# Altium schematic symbol library GAP_Shield.SCHLIB: 28 symbols
Pins are listed as number, name and electrical type; pins without a type are passive.

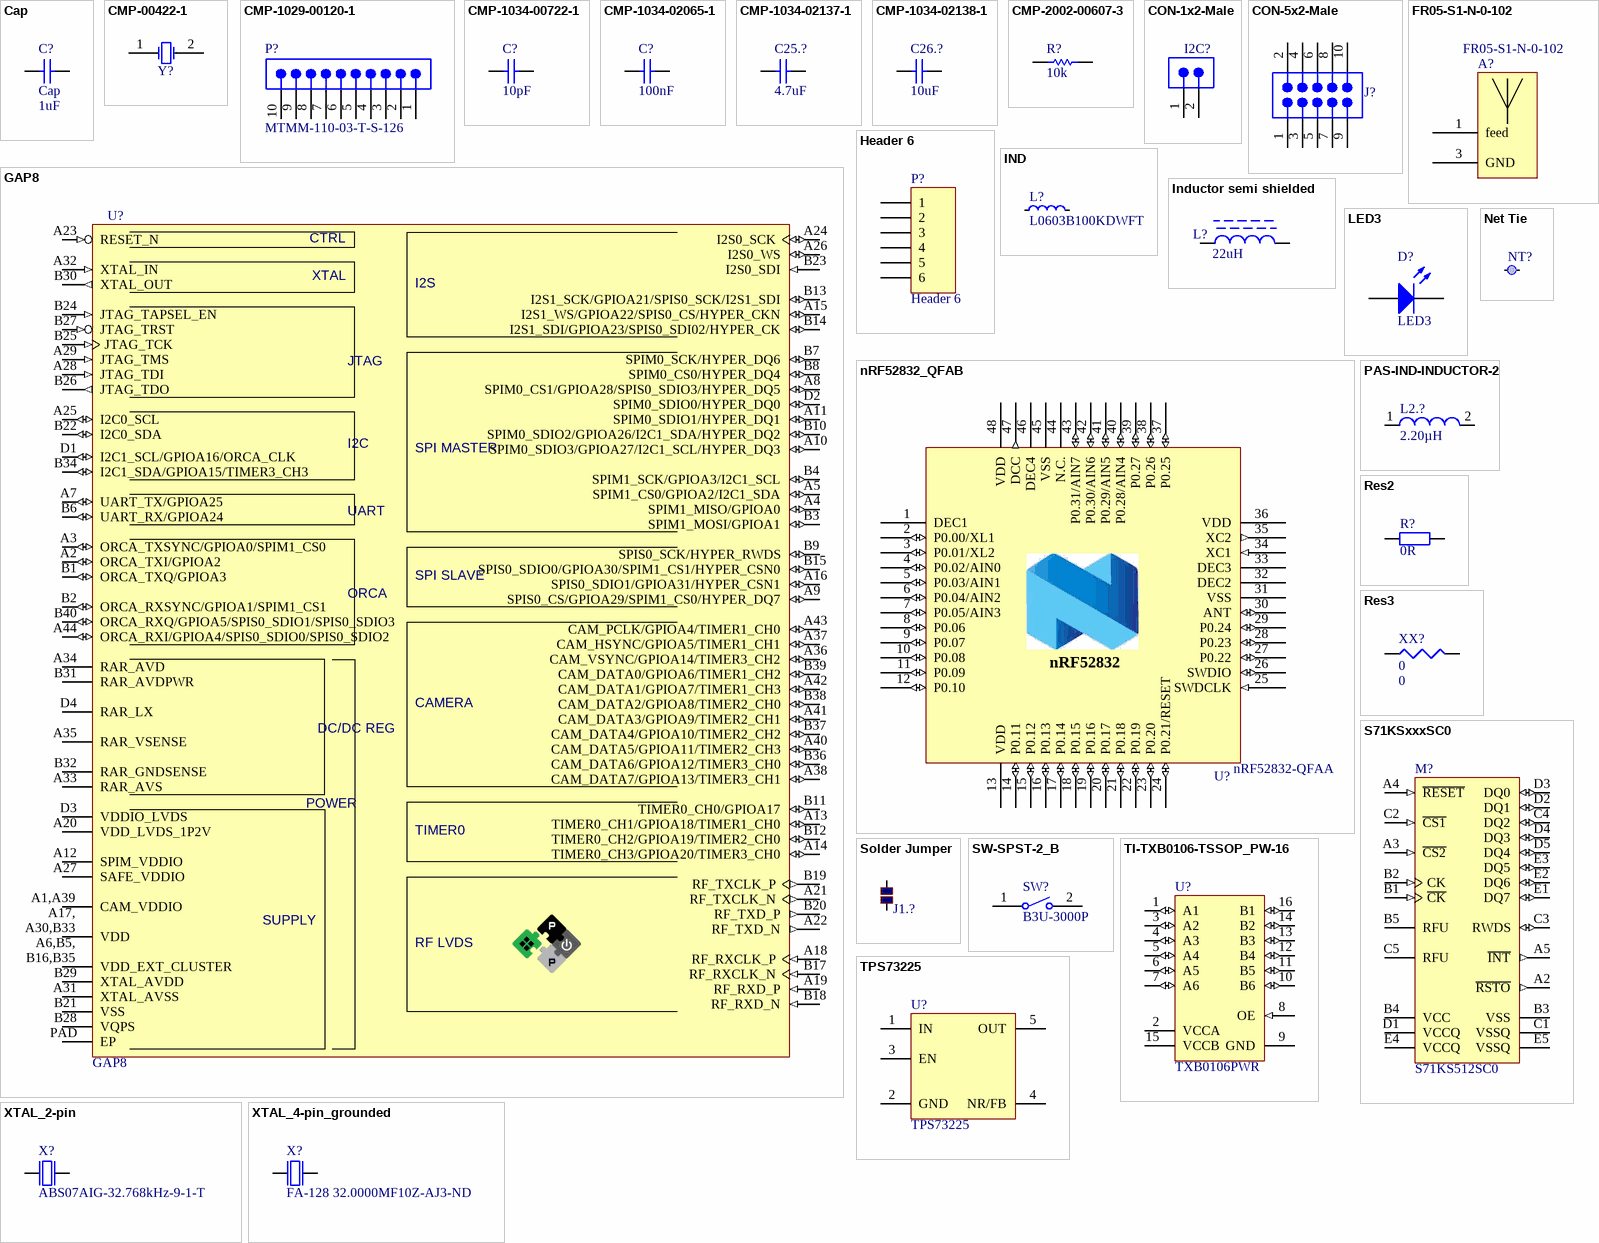
[diagram p0: symbols Cap to XTAL_4-pin_grounded]

## Cap
designator C?  value 1uF
Capacitor; Published: 8-Jun-2000; LatestRevisionDate: 17-Jul-2002; LatestRevisionNote: Re-released for DXP Platform.; PackageReference: RAD-0.3; Publisher: Altium Limited; PackageDescription: Radial Cap, Thru-Hole; 2 Leads; 0.3 in Pin Spacing
simulation model CAP (Capacitor)
signal-integrity model Cap
footprint 0402 (Chip Capacitor, Body 1.0x0.5mm, IPC High Density)
pins: 1, 2

## CMP-00422-1
designator Y?, comment ABS07-32.768KHZ-7-T  (value not drawn)
32.768kHz ±20ppm Crystal 7pF 70 kOhm -40°C ~ 85°C  Surface Mount 2-SMD, No Lead; Brand: ABRACON; Case Height: 0.9 mm; Case Length: 3.2 mm; Case Width: 1.5 mm; ESR: 70 kOhms; Dimensions: 1.5 mm W x 3.2 mm L x 0.9 mm H; Manufacturer: ABRACON; Frequency: 32.768 kHz; Frequency Stability: 20 PPM; Load Capacitance: 7 pF; Package / Case: 3.2 mm x 1.5 mm; Operating Temperature Range: - 40 C to + 85 C; Mounting Style: SMD/SMT; Factory Pack Quantity: 3000; Product Category: Crystals; RoHS: Details; Tolerance: 20 PPM; Termination Style: SMD/SMT; Packaging: Reel; Series: ABS07; Type: Low Profile Crystal; Manufacturer Part Number: ABS07-32.768KHZ-7-T; Supplier: Digikey; Supplier Part Number: 535-9543-2-ND; ComponentLink1Description: abs07-3174144.pdf; ComponentLink1URL: https://datasheet.ciiva.com/3174/abs07-3174144.pdf; ComponentLink2Description: abs07-16199467.pdf; ComponentLink2URL: https://datasheet.ciiva.com/16199/abs07-16199467.pdf; ComponentLink3Description: abs07-8344589.pdf; ComponentLink3URL: https://datasheet.ciiva.com/8344/abs07-8344589.pdf; ComponentLink4Description: abs07-855947.pdf; ComponentLink4URL: https://datasheet.ciiva.com/855/abs07-855947.pdf; ComponentLink5Description: abs07-855945.pdf; ComponentLink5URL: https://datasheet.ciiva.com/855/abs07-855945.pdf; ComponentLink6Description: abs07-855946.pdf; ComponentLink6URL: https://datasheet.ciiva.com/855/abs07-855946.pdf
footprint ABRA-ABS07-2_V (Crystal, 2-Leads, Body 3.2x1.5mm, Pitch 2.5mm)
pins: 1 X1, 2 X2

## CMP-1029-00120-1
designator P?, comment MTMM-110-03-T-S-126
Modified Through-Hole Header, Vertical, -55 to 105 degC, 2 mm Pitch, 10-Pin, Male, RoHS; Manufacturer: Samtec; Pitch: 2 mm; DatasheetVersion: F-214; ComponentLink1URL: http://www.samtec.com; ComponentLink2Description: Datasheet; Orientation: Vertical; ComponentLink3Description: Package Specification; PackageReference: MTMM-110-03-X-S-126; PackageVersion: AE, 12/1993; Temperature Range: -55 to 105 degC; PackageDescription: 2mm Terminal Strip Assembly; RoHS: True; ComponentLink3URL: http://www.samtec.com/documents/webfiles/cpdf/MTMM-1XX-XX-XX-X-XXX-XX-XXX-MKT.pdf; PartNumber: MTMM-110-03-T-S-126; ComponentLink2URL: http://d2a072wq521u33.cloudfront.net/catalog_english//MTMM_TH.PDF; ComponentLink1Description: Manufacturer URL; Mounting Technology: Through-hole
footprint SMTC-MTMM-110-03-X-S-126 (Terminal Strip Assembly, 1x10 Pins, Vertical, 2mm Pitch, Male)
pins: 1, 2, 3, 4, 5, 6, 7, 8, 9, 10

## CMP-1034-00722-1
designator C?, comment 10pF
CAP 10pF 50V ±2% 0402 (1005 Metric) Thickness 0.6mm SMD; Tolerance: Â±2%; Case-Metric: 1005; Case-EIA: 0402; Technology: SMT; Value: 10pF; Max Thickness: 0.6 mm; Rated Voltage: 50 V
footprint CAPC0402(1005)60_L (Chip Capacitor, Body 1.0x0.5mm, Height 0.6mm, IPC High Density)
footprint CAPC0402(1005)60_N (Chip Capacitor, Body 1.0x0.5mm, Height 0.6mm, IPC Medium Density)
footprint CAPC0402(1005)60_M (Chip Capacitor, Body 1.0x0.5mm, Height 0.6mm, IPC Low Density)
pins: 1, 2
1 alternate drawing of the same symbol

## CMP-1034-02065-1
designator C?, comment 100nF
CAP 100nF 10V ±10% 0402 (1005 Metric) Thickness 0.6mm SMD; Case-EIA: 0402; Case-Metric: 1005; Tolerance: Â±10%; Max Thickness: 0.6 mm; Value: 100nF; Rated Voltage: 10 V; Technology: SMT
footprint CAPC0402(1005)60_M (Chip Capacitor, Body 1.0x0.5mm, Height 0.6mm, IPC Low Density)
footprint CAPC0402(1005)60_N (Chip Capacitor, Body 1.0x0.5mm, Height 0.6mm, IPC Medium Density)
footprint CAPC0402(1005)60_L (Chip Capacitor, Body 1.0x0.5mm, Height 0.6mm, IPC High Density)
pins: 1, 2
1 alternate drawing of the same symbol

## CMP-1034-02137-1
designator C25.?, comment 4.7uF
CAP 4.7uF 6.3V ±20% 0402 (1005 Metric) Thickness 0.6mm SMD; Case-Metric: 1005; Case-EIA: 0402; Tolerance: Â±20%; Technology: SMT; Max Thickness: 0.6 mm; Rated Voltage: 6.3 V; Value: 4.7uF
footprint CAPC0402(1005)60_N (Chip Capacitor, Body 1.0x0.5mm, Height 0.6mm, IPC Medium Density)
footprint CAPC0402(1005)60_L (Chip Capacitor, Body 1.0x0.5mm, Height 0.6mm, IPC High Density)
footprint CAPC0402(1005)60_M (Chip Capacitor, Body 1.0x0.5mm, Height 0.6mm, IPC Low Density)
pins: 1, 2
1 alternate drawing of the same symbol

## CMP-1034-02138-1
designator C26.?, comment 10uF
CAP 10uF 6.3V ±20% 0402 (1005 Metric) Thickness 0.6mm SMD; Case-Metric: 1005; Case-EIA: 0402; Tolerance: Â±20%; Rated Voltage: 6.3 V; Technology: SMT; Max Thickness: 0.6 mm; Value: 10uF
footprint CAPC0402(1005)60_N (Chip Capacitor, Body 1.0x0.5mm, Height 0.6mm, IPC Medium Density)
footprint CAPC0402(1005)60_M (Chip Capacitor, Body 1.0x0.5mm, Height 0.6mm, IPC Low Density)
footprint CAPC0402(1005)60_L (Chip Capacitor, Body 1.0x0.5mm, Height 0.6mm, IPC High Density)
pins: 1, 2
1 alternate drawing of the same symbol

## CMP-2002-00607-3
designator R?, comment 10k
Chip Resistor, 10 KOhm, +/- 1%, 100 mW, -55 to 155 degC, 0402 (1005 Metric), RoHS, Tape and Reel; Manufacturer: Basic Passives; PartNumber: ERJ-2RKF1002X; Case\/Package: 0402; Resistance: 10 KOhm; Voltage Rating: 50 V; Power Rating: 100 mW; Packaging: Tape and Reel; Width: 0.5 mm; Package Quantity: 10000; Radiation Hardening: No; Min Operating Temperature: -55 degC; Case Code (Imperial): 0402; REACH SVHC: Yes; PackageDescription: 2-Pin Surface Mount Device, Body 1 x 0.5 mm; Length: 1 mm; ComponentLink1Description: Manufacturer URL; PackageReference: 0402; RoHSCompliant: true; ComponentLink1URL: http://www.panasonic.com/; Height: 0.35 mm; ComponentLink2Description: Datasheet; DatasheetVersion: 04/2015; Mounting Technology: Surface Mount; ComponentLink2URL: http://industrial.panasonic.com/cdbs/www-data/pdf/RDA0000/AOA0000C86.pdf; Max Operating Temperature: 155 degC; Pins: 2; Tolerance: 1%; Case Code (Metric): 1005; Mount: Surface Mount
footprint RESC1005X40X25NL05T05 (Chip Resistor, 2-Leads, Body 1.05x0.55mm, IPC Medium Density)
footprint RESC1005X40X25LL05T05 (Chip Resistor, 2-Leads, Body 1.05x0.55mm, IPC High Density)
footprint RESC1005X40X25ML05T05 (Chip Resistor, 2-Leads, Body 1.05x0.55mm, IPC Low Density)
pins: 1, 2

## CON-1x2-Male
designator I2C?, comment GRPB012VWVN-RC  (value not drawn)
CONN HEADER 1.27mm Pitch 1x2 POS TH DL PCB AU; Manufacturer: Sullins Connector Solutions; Connector Type: Header, Unshrouded; Number of Positions: 2; Number of Positions Loaded: All; Packaging: Bulk; Contact Type: Male Pin; Pitch: -; Number of Rows: 2; Mounting Type: Through Hole; Termination: Solder; Fastening Type: -; Features: -; Contact Finish: Gold; Contact Finish Thickness: Flash; Color: -; Manufacturer Part Number: GRPB012VWVN-RC; Supplier: Digi-Key; Supplier Part Number: S9015E-01-ND; ComponentLink1Description: GRPB_%20_2VWVN-RC%2010954-C.pdf; ComponentLink1URL: http://media.digikey.com/pdf/Data%20Sheets/Sullins%20PDFs/GRPB_%20_2VWVN-RC%2010954-C.pdf
footprint Pin Header, 1x2, TH (Terminal Assembly, 1x2 Pins, Vertical, 1.27mm Pitch, Male, TH)
pins: 1, 2

## CON-5x2-Male
designator J?, comment 20021111-00010T4LF  (value not drawn)
CONN HEADER VERT 10POS 1.27MM; Number of Contacts: 10; Insulation Resistance: 100MR; Current Rating: 10A; Voltage Rating: 125V; Contact Resistance: 30mR; Gender: Male; Row Spacing: 0.05inch; Stack Height: 2.5mm; Connector Type: Male Pin,Header; Contact Post Length: 2.3mm; Orientation: Straight; Lead Free: Lead Free; Max Operating Temperature: 85°C; Housing Material: Plastic; Package Quantity: 93; Packaging: Rail/Tube; Radiation Hardening: No; Contact Mating Length: 0.12inch; Mount: Through Hole; Max Voltage Rating (AC): 125V; Housing Color: Black; Contact Plating: Gold; Pitch: 1.27mm; Color: Black; Length: 6.35mm; Number of Positions: 10; Min Operating Temperature: -40°C; REACH SVHC: No SVHC; Termination: Solder; Number of Rows: 2; Contact Material: Nickel,Copper,Copper Alloy,Gold; Depth: 3.4mm
footprint 20021111-00010T4LF (Terminal Assembly, 2x5 Pin, Vertical, 1.27mm Pitch, Male)
pins: 1, 2, 3, 4, 5, 6, 7, 8, 9, 10

## FR05-S1-N-0-102
designator A?
Bluetooth antenna
footprint ANTENNACHIP (Chip ANTENNA SMD)
footprint DFN510P700X220-2N
pins: 1 feed, 2 not connected hidden, 3 GND

## GAP8
designator U?
Package: QFN88
footprint RKC0088A_V (QFN, 88-Leads, Body 7x7mm, Pitch 0.55mm, Thermal Pad 4.6x4.6mm, TI Recommend)
pins: A1 CAM_VDDIO (power), A2 ORCA_TXI/GPIOA2 (io), A3 ORCA_TXSYNC/GPIOA0/SPIM1_CS0 (io), A4 SPIM1_MISO/GPIOA0 (io), A5 SPIM1_CS0/GPIOA2/I2C1_SDA (io), A6 VDD_EXT_CLUSTER (power), A7 UART_TX/GPIOA25 (io), A8 SPIM0_CS1/GPIOA28/SPIS0_SDIO3/HYPER_DQ5 (io), A9 SPIS0_CS/GPIOA29/SPIM1_CS0/HYPER_DQ7 (io), A10 SPIM0_SDIO3/GPIOA27/I2C1_SCL/HYPER_DQ3 (io), A11 SPIM0_SDIO1/HYPER_DQ1 (io), A12 SPIM_VDDIO (power), A13 TIMER0_CH1/GPIOA18/TIMER1_CH0 (io), A14 TIMER0_CH3/GPIOA20/TIMER3_CH0 (io), A15 I2S1_WS/GPIOA22/SPIS0_CS/HYPER_CKN (io), A16 SPIS0_SDIO1/GPIOA31/HYPER_CSN1 (io), A17 VDD (power), A18 RF_RXCLK_P (in), A19 RF_RXD_P (in), A20 VDD_LVDS_1P2V (power), A21 RF_TXCLK_N (out), A22 RF_TXD_N (out), A23 RESET_N (in), A24 I2S0_SCK (io), A25 I2C0_SCL (io), A26 I2S0_WS (io), A27 SAFE_VDDIO (power), A28 JTAG_TDI (in), A29 JTAG_TMS (in), A30 VDD (power), A31 XTAL_AVSS (power), A32 XTAL_IN (in), A33 RAR_AVS (power), A34 RAR_AVD (power), A35 RAR_VSENSE (power), A36 CAM_VSYNC/GPIOA14/TIMER3_CH2 (io), A37 CAM_HSYNC/GPIOA5/TIMER1_CH1 (io), A38 CAM_DATA7/GPIOA13/TIMER3_CH1 (io), A39 CAM_VDDIO (power), A40 CAM_DATA5/GPIOA11/TIMER2_CH3 (io), A41 CAM_DATA3/GPIOA9/TIMER2_CH1 (io), A42 CAM_DATA1/GPIOA7/TIMER1_CH3 (io), A43 CAM_PCLK/GPIOA4/TIMER1_CH0 (io), A44 ORCA_RXI/GPIOA4/SPIS0_SDIO0/SPIS0_SDIO2 (io), B1 ORCA_TXQ/GPIOA3 (io), B2 ORCA_RXSYNC/GPIOA1/SPIM1_CS1 (io), B3 SPIM1_MOSI/GPIOA1 (io), B4 SPIM1_SCK/GPIOA3/I2C1_SCL (io), B5 VDD_EXT_CLUSTER (power), B6 UART_RX/GPIOA24 (io), B7 SPIM0_SCK/HYPER_DQ6 (io), B8 SPIM0_CS0/HYPER_DQ4 (io), B9 SPIS0_SCK/HYPER_RWDS (io), B10 SPIM0_SDIO2/GPIOA26/I2C1_SDA/HYPER_DQ2 (io), B11 TIMER0_CH0/GPIOA17 (io), B12 TIMER0_CH2/GPIOA19/TIMER2_CH0 (io), B13 I2S1_SCK/GPIOA21/SPIS0_SCK/I2S1_SDI (io), B14 I2S1_SDI/GPIOA23/SPIS0_SDI02/HYPER_CK (io), B15 SPIS0_SDIO0/GPIOA30/SPIM1_CS1/HYPER_CSN0 (io), B16 VDD_EXT_CLUSTER (power), B17 RF_RXCLK_N (in), B18 RF_RXD_N (in), B19 RF_TXCLK_P (out), B20 RF_TXD_P (out), B21 VSS (power), B22 I2C0_SDA (io), B23 I2S0_SDI (in), B24 JTAG_TAPSEL_EN (in), B25 JTAG_TCK (in), B26 JTAG_TDO (out), B27 JTAG_TRST (in), B28 VQPS (power), B29 XTAL_AVDD (power), B30 XTAL_OUT (out), B31 RAR_AVDPWR (power), B32 RAR_GNDSENSE (power), B33 VDD (power), B34 I2C1_SDA/GPIOA15/TIMER3_CH3 (io), B35 VDD_EXT_CLUSTER (power), B36 CAM_DATA6/GPIOA12/TIMER3_CH0 (io), B37 CAM_DATA4/GPIOA10/TIMER2_CH2 (io), B38 CAM_DATA2/GPIOA8/TIMER2_CH0 (io), B39 CAM_DATA0/GPIOA6/TIMER1_CH2 (io), B40 ORCA_RXQ/GPIOA5/SPIS0_SDIO1/SPIS0_SDIO3 (io), D1 I2C1_SCL/GPIOA16/ORCA_CLK (io), D2 SPIM0_SDIO0/HYPER_DQ0 (io), D3 VDDIO_LVDS (power), D4 RAR_LX (power), PAD EP (power)
text: CTRL; XTAL; I2S; JTAG; I2C; SPI MASTER; UART; ORCA; SPI SLAVE; CAMERA; DC/DC REG; POWER; TIMER0; A1,A39; A17,; SUPPLY; A30,B33; A6,B5,; RF LVDS; B16,B35

## Header 6
designator P?
Header, 6-Pin; LatestRevisionDate: 17-Jul-2002; LatestRevisionNote: Re-released for DXP Platform.; Publisher: Altium Limited
footprint HDR1X6 (Connector; Header; 6 Position)
signal-integrity model Connector
pins: 1, 2, 3, 4, 5, 6

## IND
designator L?, comment L0603B100KDWFT
Chip inductor, IDC,min = 50 mA, ±20%; Part Number: L0603-10µ; Manufacturer: Taiyo Yuden; Manufacturer Part Number: LBMF1608T100K; 2nd source part number: 178-6105; Value: 10µH; Note: LBMF1608T100K 10µH 80mA 0603; Artikkelnr Noca: 33029314; Artikkelnr Simpro: N.A.; Datasheet: http://www.yuden.co.jp/ut/product/pdf/elb2_e.pdf; LatestRevisionDate: 2012-09-19; Pin Count: 2; Publisher: Nordic Semiconductor; Published: 2010-02-24; Supplier: Digi-Key; Supplier part number: 587-1714-1-ND; 2nd source Supplier: Farnell; Footprint Doc: 0603
footprint INDC1608X06L
footprint 0603 (Chip Inductor, Body 0.6x0.3mm, IPC High Density)
footprint J1-0603 (Chip Resistor, Body 1.6x0.8mm, IPC High Density)
pins: 1, 2

## Inductor semi shielded
designator L?, comment value 22uH  (hidden comment: SRN4026-220M)
Inductor Power Semi-Shielded Wirewound 22uH 20% 100KHz 11Q-Factor Ferrite 670mA 234mOhm DCR 1515 T/R; DC Resistance (DCR): 234mR; Self Resonant Frequency: 16MHz; Mount: Surface Mount; Case/Package: Nonstandard; Weight: 0.004938oz; Core Material: Ferrite; Min Operating Temperature: -40°C; Max Operating Temperature: 125°C; Packaging: Tape and Reel; Tolerance: 20%; Composition: Wirewound; Inductance: 22uh; Current Rating: 670mA; Saturation Current: 670mA; Shielding: Shielded; Test Frequency: 100kHz; Max DC Current: 670mA; Termination: SMD/SMT; RMS Current (Irms): 670mA; Inductance Tolerance: 20%; Package Quantity: 3000; Length: 4mm; Height: 2.5mm; Width: 4mm; Height - Seated (Max): 0.098inch; Depth: 4mm; REACH SVHC: No SVHC
footprint SRN4026 (Semi-Shielded Wirewound Inductor)
pins: 1, 2

## LED3
designator D?
Typical BLUE SiC LED; Published: 8-Jun-2000; LatestRevisionDate: 17-Dec-2003; LatestRevisionNote: PCB Footprint replaced.; DatasheetVersion: 16-Apr-2002; PackageVersion: 16-Apr-2002; PackageReference: 3.5X2.8X1.9; Publisher: Altium Limited; PackageDescription: SM LED; 2 C-Bend Leads; Body 3.5 x 2.8 x 1.9 mm, inc leads (LxWxH typ)
simulation model LED3 (Diode)
signal-integrity model LED
footprint 0603
pins: 1 A, 2 K

## Net Tie
designator NT?  (value not drawn)  (net tie, no BOM)
Net Tie - 0.15mm width, 0.5mm length
footprint Net Tie (Net Tie, 0.15mm width, 0.5mm length)
pins: 1 NT, 2 NT

## nRF52832_QFAB
designator U?, comment nRF52832-QFAA
Multi-protocol Bluetooth Low Energy, ANT and 2.4GHz proprietary system-on-chip; Manufacturer: Nordic Semiconductor; Artikkelnr Noca: N.A.; Part Number: nRF52832-QFAA; Manufacturer Part Number: nRF52832-QFAA; Datasheet: *; LatestRevisionDate: 2016-11-24; Pin Count: 48; Publisher: Nordic Semiconductor; Published: 2016-11-24; Value: nRF52832-QFAA; Note: *; Supplier: Nordic Semiconductor; Supplier part number: *; 2nd source Supplier: *; 2nd source part number: *; Footprint Doc: QFN-48; Artikkelnr Simpro: N.A.
footprint QFN40P600X600X90-48N
pins: 1 DEC1 (power), 2 P0.00/XL1 (io), 3 P0.01/XL2 (io), 4 P0.02/AIN0 (io), 5 P0.03/AIN1 (io), 6 P0.04/AIN2 (io), 7 P0.05/AIN3 (io), 8 P0.06 (io), 9 P0.07 (io), 10 P0.08 (io), 11 P0.09 (io), 12 P0.10 (io), 13 VDD (power), 14 P0.11 (io), 15 P0.12 (io), 16 P0.13 (io), 17 P0.14 (io), 18 P0.15 (io), 19 P0.16 (io), 20 P0.17 (io), 21 P0.18 (io), 22 P0.19 (io), 23 P0.20 (io), 24 P0.21/RESET (io), 25 SWDCLK (in), 26 SWDIO (io), 27 P0.22 (io), 28 P0.23 (io), 29 P0.24 (io), 30 ANT (io), 31 VSS (power), 32 DEC2 (power), 33 DEC3 (power), 34 XC1 (in), 35 XC2 (out), 36 VDD (power), 37 P0.25 (io), 38 P0.26 (io), 39 P0.27 (io), 40 P0.28/AIN4 (io), 41 P0.29/AIN5 (io), 42 P0.30/AIN6 (io), 43 P0.31/AIN7 (io), 44 N.C. (power), 45 VSS (power), 46 DEC4 (power), 47 DCC (out), 48 VDD (power), 49 GND (power) hidden to GND
text: nRF52832

## PAS-IND-INDUCTOR-2
designator L2.?, comment Inductance: 2.20µH  (hidden comment: 74479775222)
Power Multilayer Inductor WE-PMI, L=2.20 µH; Manufacturer: Wuerth Elektronik; ComponentLink2URL: http://katalog.we-online.de/kataloge/eisos/media/pdf/74479775222A.pdf; ComponentLink1Description: Manufacturer URL; ComponentLink2Description: Datasheet; ComponentLink1URL: http://www.we-online.com; PartNumber: 74479775222; PackageReference: SMD 0805_A
footprint SMD 0805_A (Chip Inductor, 2-Leads, Body 2,0x1,2mm)
pins: 1, 2

## Res2
designator R?, comment value 0R  (hidden comment: R)
Resistor; Published: 8-Jun-2000; LatestRevisionDate: 17-Jul-2002; LatestRevisionNote: Re-released for DXP Platform.; PackageReference: AXIAL-0.4; Publisher: Altium Limited; PackageDescription: Axial Device, Thru-Hole; 2 Leads; 0.4 in Pin Spacing
simulation model RESISTOR (Resistor)
signal-integrity model Res
footprint cap_0402_R - modified (0402_R)
pins: 1, 2

## Res3
designator XX?, comment 0
Resistor; Published: 8-Jun-2000; LatestRevisionDate: 29-May-2009; LatestRevisionNote: IPC-7351 Footprint Added.; PackageReference: J1-0603; Publisher: Altium Limited; PackageDescription: Chip Resistor; Value: 0
footprint J1-0603 (Chip Resistor, Body 1.6x0.8mm, IPC High Density)
footprint 14-1210 (Chip Resistor, Body 3.2x2.5mm, IPC High Density)
footprint 12Z-2010 (Chip Resistor, Body 5.0x2.5mm, IPC High Density)
footprint RESC6332 (Chip Resistor, Body 6.3x3.2mm, IPC High Density)
simulation model RESISTOR (Resistor)
signal-integrity model Res
footprint 0402 (Chip Capacitor, Body 1.0x0.5mm, IPC High Density)
pins: 1, 2

## S71KSxxxSC0
designator M?, comment S71KS512SC0
IC 512MB FLASH 64MB DRAM 24FBGA; Manufacturer: Cypress Semiconductor Corp; Memory Format: FLASH, RAM; Memory Type: Non-Volatile; Memory Size: 512Mbit Flash, 64Mbit RAM; Speed: 100MHz; Interface: Parallel, Serial; Voltage - Supply: 1.8V; Series: HyperFlash™ + HyperRAM™ KS; Package / Case: 24-VBGA; Supplier Device Package: 24-FBGA(6x8)
footprint FBGA24_A-130 (BGA, 24-Balls, Body 8x6mm, Pitch 1mm, A1 missing)
pins: A2 ~{RSTO} (out), A3 ~{CS2} (in), A4 ~{RESET} (in), A5 ~{INT} (out), B1 ~{CK} (in), B2 CK (in), B3 VSS (power), B4 VCC (power), B5 RFU, C1 VSSQ (power), C2 ~{CS1} (in), C3 RWDS (io), C4 DQ2 (io), C5 RFU, D1 VCCQ (power), D2 DQ1 (io), D3 DQ0 (io), D4 DQ3 (io), D5 DQ4 (io), E1 DQ7 (io), E2 DQ6 (io), E3 DQ5 (io), E4 VCCQ (power), E5 VSSQ (power)

## Solder Jumper
designator J1.?  (value not drawn)
Value: 1; Technology: SMT
simulation model SIM-001-0001-1 (Resistor generic model)
footprint UJMPR (Micro Jumper)
footprint Big Solder Jumper (Big Solder Jumper (shortcut with a drop of tin if needed))
footprint Small Solder Jumper 2 (Small Solder Jumper (shortcut with a drop of tin if needed))
pins: 1, 2

## SW-SPST-2_B
designator SW?, comment B3U-3000P
Ultra-Small Tactile Switch, 1 to 50 mA, 3 to 12 V, -25 to 70 degC, 2-Pin SMD, RoHS, Tape and Reel; Tolerance: 20%; Voltage Rating (DC): 50 V; Capacitance: 470 uF; Case\Package: Radial; PackageReference: B3U-3000P; Min Operating Temperature: -40 degC; Length: 20 mm; Mount: Through Hole; ComponentLink2Description: Datasheet; RoHSCompliant: true; ComponentLink1URL: http://www.omron.com/; Package Quantity: 200; Radiation Hardening: No; Height: 20 mm; ComponentLink2URL: https://www.omron.com/ecb/products/pdf/en-b3u.pdf; Diameter: 10 mm; Max Operating Temperature: 85 degC; Lead Pitch: 5 mm; DatasheetVersion: Jan-15; Packaging: Bulk; PackageDescription: 2-Pin Surface Mount Device, Body 4 x 3.2 mm; Voltage Rating: 50 V; Pins: 2; ComponentLink1Description: Manufacturer URL; REACH SVHC: No SVHC
footprint OMRON-B3U-3000P_V (SMD, 2-Leads, Body 4x3.2mm)
pins: 1, 2

## TI-TXB0106-TSSOP_PW-16
designator U?, comment TXB0106PWR
6-Bit Bidirectional Level-Shifting and Voltage Translator with Auto-Direction Sensing and +/- 15-kV ESD Protection, 1.2 to 3.6 V, -40 to 85 degC, 16-Pin TSSOP (PW), Green (RoHS & no Sb/Br), Tape and Reel; Manufacturer: Texas Instruments; Dynamic Catalog: TXBSeries; Differential - Input: Output:No/No; Number of Bits: 6; Output Type: Logic; Propagation Delay (Max): 4ns; Number of Outputs/Channel: 1; Voltage - Supply: 1.2V~3.6V,1.65V~5.5V; Data Rate: 100Mbps; Product Training Modules: VoltageLevelTranslation; Other Names: 296-23759-1; Logic Function: Translator,Bidirectional; Packaging: CutTape(CT); Datasheet URL: http://www.ti.com/general/docs/lit/getliterature.tsp?genericPartNumber=TXB0106&fileType=pdf; Package Description: 16-Pin Small Outline Package Integrated Circuit, Body 5 x 4.4 mm, Pitch 0.65 mm; Standard Package: 1; Series: -; Manufacturer URL: http://www.ti.com/; Operating Temperature: -40°C~85°C; Supplier Device Package: 16-TSSOP; Package Reference: PW16; Number of Channels: 6; Category: IntegratedCircuits(ICs); Package / Case: 16-TSSOP(0.173",4.40mmWidth); Family: Logic-Translators; Datasheet Version: Rev. B, 06/2015; Mounting Technology: SurfaceMount; Input Type: Logic
footprint PW0016A_L (SOP, 16-Leads, Body 5.1x4.5mm, Pitch 0.65mm, IPC High Density)
footprint PW0016A_M (SOP, 16-Leads, Body 5.1x4.5mm, Pitch 0.65mm, IPC Low Density)
footprint PW0016A_N (SOP, 16-Leads, Body 5.1x4.5mm, Pitch 0.65mm, IPC Medium Density)
pins: 1 A1 (io) "Input/output 1. Referenced to VCCA.", 2 VCCA (power) "A-port supply Voltage. 1.2V<=VCCA<=3.6V,VCCA <=VCCB.", 3 A2 (io) "Input/output 2. Referenced to VCCA.", 4 A3 (io) "Input/output 3. Referenced to VCCA.", 5 A4 (io) "Input/output 4. Referenced to VCCA.", 6 A5 (io) "Input/output 5. Referenced to VCCA.", 7 A6 (io) "Input/output 6. Referenced to VCCA.", 8 OE (in) "Output enable. Pull OE low to place all outputs in 3-state mode.Referenced to VCCA .", 9 GND (power) "Ground", 10 B6 (io) "Input/output 6. Referenced to VCCB.", 11 B5 (io) "Input/output 5. Referenced to VCCB.", 12 B4 (io) "Input/output 4. Referenced to VCCB.", 13 B3 (io) "Input/output 3. Referenced to VCCB.", 14 B2 (io) "Input/output 2. Referenced to VCCB.", 15 VCCB (power) "B-port supply Voltage. 1.65V<=VCCB<=5.5V.", 16 B1 (io) "Input/output 1. Referenced to VCCB."

## TPS73225
designator U?
Linear Regulator
footprint SOT23__DDC__(R - PDSO-  G5)
pins: 1 IN, 2 GND, 3 EN, 4 NR/FB, 5 OUT

## XTAL_2-pin
designator X?, comment ABS07AIG-32.768kHz-9-1-T
XTAL SMD 3215, 32.768kHz, Cl=9pF, Total Tol: ±50ppm; Part Number: XTAL_SMD3215_32.768kHz_9pF_General; Note: XTAL SMD 32.768kHz; Artikkelnr Noca: N.A.; Manufacturer: *; Manufacturer Part Number: *; Datasheet: *; LatestRevisionDate: 2016-08-19; Pin Count: 2; Publisher: Nordic Semiconductor; Published: 2016-08-19; Value: 32.768kHz; Supplier: *; Supplier part number: *; 2nd source Supplier: *; 2nd source part number: *; Footprint Doc: XTAL_3215; Artikkelnr Simpro: N.A.
footprint XTAL_3215
pins: 1 inp, 2 out

## XTAL_4-pin_grounded
designator X?, comment FA-128 32.0000MF10Z-AJ3-ND
XTAL SMD 2016, 32MHz, Cl=8pF, Total Tol: ±40ppm; Part Number: XTAL_SMD2016_32MHz_8pF_General; Note: XTAL SMD 32.000MHz; Artikkelnr Noca: N.A.; Manufacturer: *; Manufacturer Part Number: *; Datasheet: *; LatestRevisionDate: 2016-08-19; Pin Count: 4; Publisher: Nordic Semiconductor; Published: 2016-08-19; Value: 32MHz; Supplier: *; Supplier part number: *; 2nd source Supplier: *; 2nd source part number: *; Footprint Doc: XTAL_2016; Artikkelnr Simpro: N.A.
footprint BT-XTAL_2016
pins: 1 inp, 2 GND hidden to GND, 3 out, 4 GND hidden to GND